# Altium footprint library 2828574.PcbLib: 1 footprints
Each footprint in its own frame and in the unit in brackets; x right, y up, seen from the top. Pads: shape width x height; smd on the part's side, far side on the other; paste and mask are expansions set on the pad; w line width, h text height; cw(c..) or ccw(c..) is an arc to the next point about the centre after c.
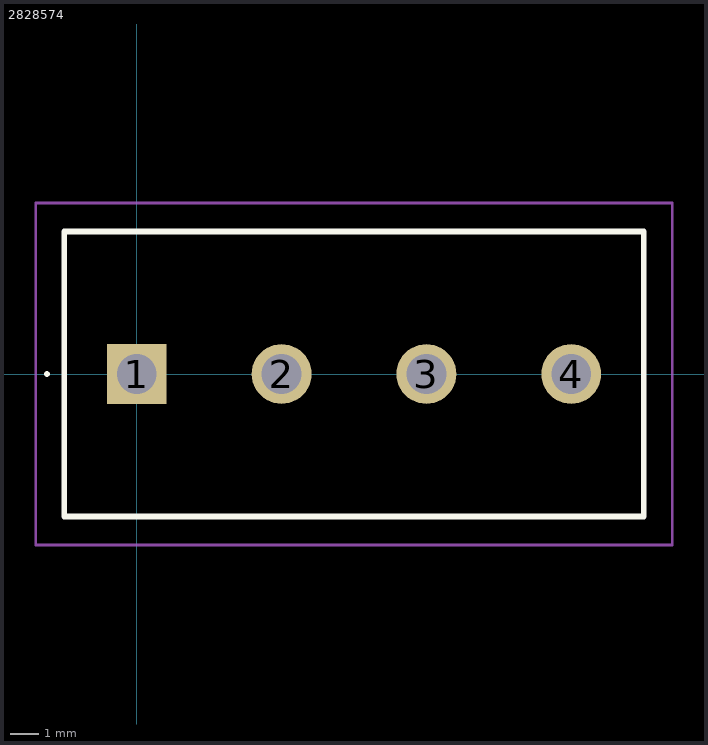
[diagram p0: the footprint, top view; thin cyan lines are the x and y axes]

## 2828574 [mm]
pads (4):
  rect 2.1x2.1 hole 1.4: 1(0,0)
  round 2.1 hole 1.4: 2(5.08,0) 3(10.16,0) 4(15.24,0)
Top Overlay:
  lines w0.1: -3.2,0 -3.2,0 ; -3.2,0 ccw(c-3.15,0) -3.1,0 ; -3.2,0 cw(c-3.15,0) -3.1,0 ; -3.1,0 -3.1,0
  lines w0.2: -2.54,-5 17.78,-5 17.78,5 -2.54,5 -2.54,-5
Mechanical 15:
  lines w0.1: -2.54,-5 17.78,-5 17.78,5 -2.54,5 -2.54,-5
Mechanical 20:
  lines w0.1: -3.54,-6 18.78,-6 18.78,6 -3.54,6 -3.54,-6